# Altium footprint library PBS_ALL.PcbLib: 2 footprints
Each footprint in its own frame and in the unit in brackets; x right, y up, seen from the top. Pads: shape width x height; smd on the part's side, far side on the other; paste and mask are expansions set on the pad; w line width, h text height; cw(c..) or ccw(c..) is an arc to the next point about the centre after c.
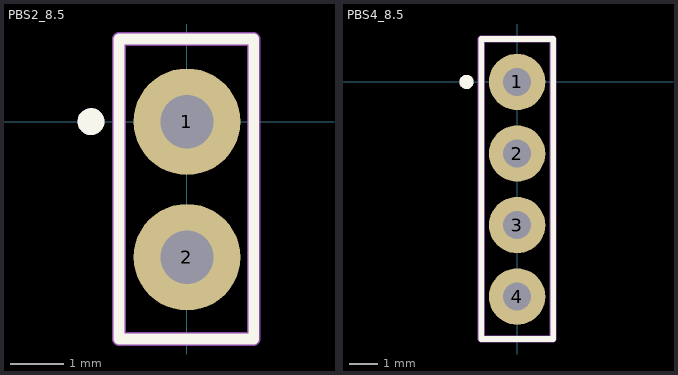
[diagram p0: the footprints below, top view; thin cyan lines are the x and y axes]

## PBS2_8.5 [mm]
pads (2):
  round 2 hole 1: 1(0,0) 2(0,-2.54)
Top Overlay:
  circle w0.254: c-1.8,0 r0.125
  lines w0.2: -1.275,-4.075 -1.275,1.55 1.25,1.55 1.25,-4.075 -1.275,-4.075
Bottom Overlay:
  circle w0.254: c-1.8,0 r0.125
Mechanical 13 (Mech13):
  circle w0.254: c-1.8,0 r0.125
  lines w0.254: -1.275,-4.075 -1.275,1.55 1.25,1.55 1.25,-4.075 -1.275,-4.075
  text ".Designator" at -4.2,1.98 h2.15
3D body "User Library-PBS_(DS1023)_1line_connectors_h=5_0_8_5mm_step_2_54mm.STEP": height 8.5, standoff -3, extent -1.25,-4.06 1.25,1.52

## PBS4_8.5 [mm]
pads (4):
  round 2 hole 1: 1(0,0) 2(0,-2.54) 3(0,-5.08) 4(0,-7.62)
Top Overlay:
  circle w0.254: c-1.8,0 r0.125
  lines w0.2: -1.275,-9.125 1.275,-9.125 1.275,1.525 -1.275,1.525 -1.275,-9.125
Bottom Overlay:
  circle w0.254: c-1.8,0 r0.125
Mechanical 13 (Mech13):
  circle w0.254: c-1.8,0 r0.125
  lines w0.254: -1.275,-9.125 1.275,-9.125 1.275,1.525 -1.275,1.525 -1.275,-9.125
  text ".Designator" at -4.2,1.98 h2.15
3D body "User Library-PBS_(DS1023)_1line_connectors_h=5_0_8_5mm_step_2_54mm.STEP": height 8.5, standoff -3, extent -1.25,-9.14 1.25,-3.56
3D body "User Library-PBS_(DS1023)_1line_connectors_h=5_0_8_5mm_step_2_54mm.STEP": height 8.5, standoff -3, extent -1.25,-4.06 1.25,1.52